# EAGLE library part TEST_PART (library eric_personal_parts)
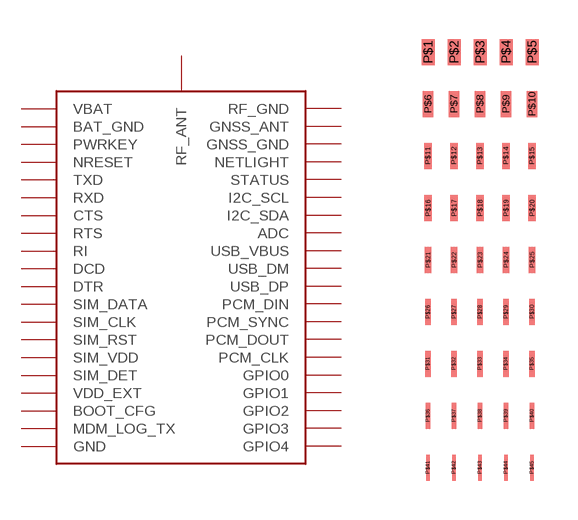
[diagram p8: symbol with the pads of TEST_PART; footprint TEST_PART]

Designator prefix -

## TEST_PART  [TEST_PART]
P$1  ADC
P$2  BAT_GND
P$3  BOOT_CFG
P$4  CTS
P$5  DCD
P$6  DTR
P$7  GND
P$8  GNSS_ANT
P$9  GNSS_GND
P$10  GPIO0
P$11  GPIO1
P$12  GPIO2
P$13  GPIO3
P$14  GPIO4
P$15  I2C_SCL
P$16  I2C_SDA
P$17  MDM_LOG_TX
P$18  NETLIGHT
P$19  NRESET
P$20  PCM_CLK
P$21  PCM_DIN
P$22  PCM_DOUT
P$23  PCM_SYNC
P$24  PWRKEY
P$25  RF_ANT
P$26  RF_GND
P$27  RI
P$28  RTS
P$29  RXD
P$30  SIM_CLK
P$31  SIM_DATA
P$32  SIM_DET
P$33  SIM_RST
P$34  SIM_VDD
P$35  STATUS
P$36  TXD
P$37  USB_DM
P$38  USB_DP
P$39  USB_VBUS
P$40  VBAT
P$41  VDD_EXT
P$42  ADC
P$43  ADC
P$44  ADC
P$45  ADC

## Footprint TEST_PART (pad centres in mm)
smd 0.5 x 1: P$1 0,8; P$2 1,8; P$3 2,8; P$4 3,8; P$5 4,8
smd 0.4 x 1: P$6 0,6; P$7 1,6; P$8 2,6; P$9 3,6; P$10 4,6
smd 0.3 x 1: P$11 0,4; P$12 1,4; P$13 2,4; P$14 3,4; P$15 4,4
smd 0.275 x 1: P$16 0,2; P$17 1,2; P$18 2,2; P$19 3,2; P$20 4,2
smd 0.25 x 1: P$21 0,0; P$22 1,0; P$23 2,0; P$24 3,0; P$25 4,0
smd 0.225 x 1: P$26 0,-2; P$27 1,-2; P$28 2,-2; P$29 3,-2; P$30 4,-2
smd 0.2 x 1: P$31 0,-4; P$32 1,-4; P$33 2,-4; P$34 3,-4; P$35 4,-4
smd 0.175 x 1: P$36 0,-6; P$37 1,-6; P$38 2,-6; P$39 3,-6; P$40 4,-6
smd 0.15 x 1: P$41 0,-8; P$42 1,-8; P$43 2,-8; P$44 3,-8; P$45 4,-8